# EAGLE library part HDR-1X10 (library Mechanical)
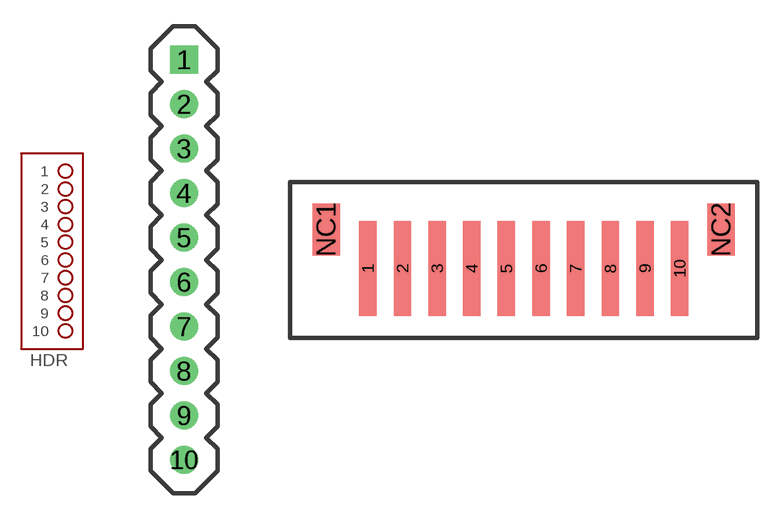
[diagram p90: symbol with the pads of HDR-1X10; footprints HDR-1X10, JST-10-HDR]

Designator prefix HDR

## HDR-1X10-100MILI  [HDR-1X10]
1  1  pas
2  2  pas
3  3  pas
4  4  pas
5  5  pas
6  6  pas
7  7  pas
8  8  pas
9  9  pas
10  10  pas

## HDR-1X10-JST_TOP  [JST-10-HDR]
Pads as for HDR-1X10

## Footprint HDR-1X10 (pad centres in mm)
drill 1.067 square: 1 0,0
drill 1.067: 2 0,-2.54; 3 0,-5.08; 4 0,-7.62; 5 0,-10.16; 6 0,-12.7; 7 0,-15.24; 8 0,-17.78; 9 0,-20.32; 10 0,-22.86

## Footprint JST-10-HDR (pad centres in mm)
smd 1 x 5.5: 1 -9,0; 2 -7,0; 3 -5,0; 4 -3,0; 5 -1,0; 6 1,0; 7 3,0; 8 5,0; 9 7,0; 10 9,0
smd 1.6 x 3: NC1 -11.4,2.25; NC2 11.4,2.25